# Altium integrated library MSS-22D18.IntLib: 1 symbol
Pins are listed as number, name and electrical type; pins without a type are passive.

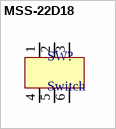
[diagram p0: symbol MSS-22D18]

## MSS-22D18
designator SW?, comment Switch
Plugin,9.1x3.5mm Slide Switches ROHS
footprint MSS-22D18
pins: 1 Pin 1, 2 Pin 2, 3 Pin 3, 4 Pin 4, 5 Pin 5, 6 Pin 6